# EAGLE library part ARDUINO-MEGA-EXT-BREAKOUT (library SKAARHOJ)
Arduino Mega footprint connections
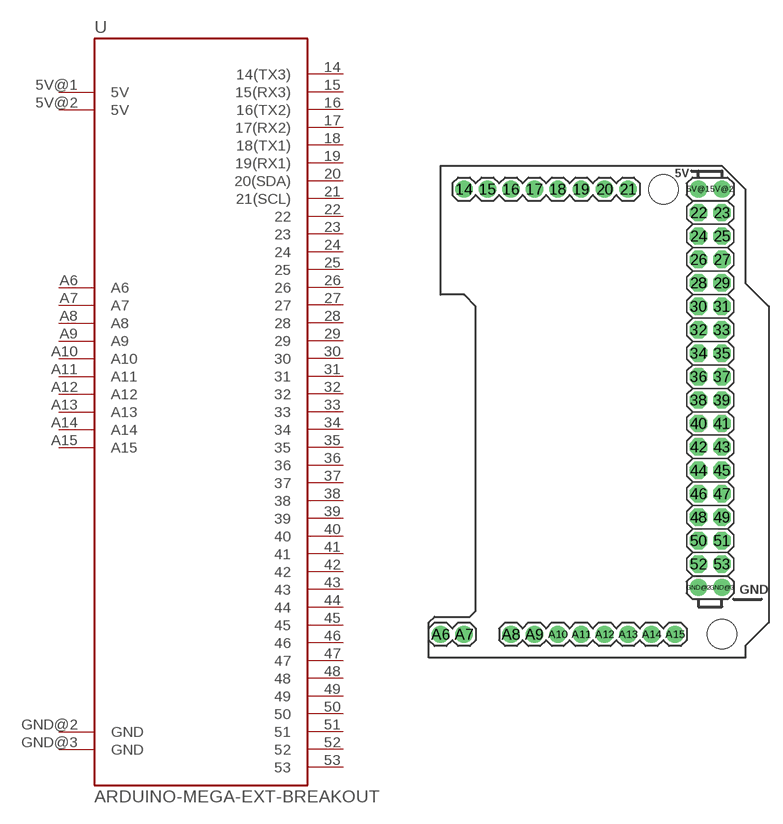
[diagram p13: symbol with the pads of ARDUINO_MEGA_EXT_BREAKOUT; footprint ARDUINO_MEGA_EXT_BREAKOUT]

Designator prefix U

## ARDUINO-MEGA-EXT-BREAKOUTFULL  [ARDUINO_MEGA_EXT_BREAKOUT]
5V@1  5V
5V@2  5V
14  14(TX3)
15  15(RX3)
16  16(TX2)
17  17(RX2)
18  18(TX1)
19  19(RX1)
20  20(SDA)
21  21(SCL)
22  22
23  23
24  24
25  25
26  26
27  27
28  28
29  29
30  30
31  31
32  32
33  33
34  34
35  35
36  36
37  37
38  38
39  39
40  40
41  41
42  42
43  43
44  44
45  45
46  46
47  47
48  48
49  49
50  50
51  51
52  52
53  53
A6  A6
A7  A7
A8  A8
A9  A9
A10  A10
A11  A11
A12  A12
A13  A13
A14  A14
A15  A15
GND@2  GND
GND@3  GND

## Footprint ARDUINO_MEGA_EXT_BREAKOUT (pad centres in mm)
Full Arduino MEGA footprint
drill 1.016 pad 1.88: 5V@1 29.21,50.8; 5V@2 31.75,50.8; 14 3.81,50.8; 15 6.35,50.8; 16 8.89,50.8; 17 11.43,50.8; 18 13.97,50.8; 19 16.51,50.8; 20 19.05,50.8; 21 21.59,50.8; A6 1.27,2.54; A7 3.81,2.54; A8 8.89,2.54; A9 11.43,2.54; A10 13.97,2.54; A11 16.51,2.54; A12 19.05,2.54; A13 21.59,2.54; A14 24.13,2.54; A15 26.67,2.54; GND@2 29.21,7.62; GND@3 31.75,7.62
drill 1.016 pad 1.88 octagon: 22 29.21,48.26; 23 31.75,48.26; 24 29.21,45.72; 25 31.75,45.72; 26 29.21,43.18; 27 31.75,43.18; 28 29.21,40.64; 29 31.75,40.64; 30 29.21,38.1; 31 31.75,38.1; 32 29.21,35.56; 33 31.75,35.56; 34 29.21,33.02; 35 31.75,33.02; 36 29.21,30.48; 37 31.75,30.48; 38 29.21,27.94; 39 31.75,27.94; 40 29.21,25.4; 41 31.75,25.4; 42 29.21,22.86; 43 31.75,22.86; 44 29.21,20.32; 45 31.75,20.32; 46 29.21,17.78; 47 31.75,17.78; 48 29.21,15.24; 49 31.75,15.24; 50 29.21,12.7; 51 31.75,12.7; 52 29.21,10.16; 53 31.75,10.16
hole 3.2 at 25.4,50.8
hole 3.2 at 31.75,2.54